# Altium footprint library SENS_OPTIC.PcbLib: 12 footprints
Each footprint in its own frame and in the unit in brackets; x right, y up, seen from the top. Pads: shape width x height; smd on the part's side, far side on the other; paste and mask are expansions set on the pad; w line width, h text height; cw(c..) or ccw(c..) is an arc to the next point about the centre after c.
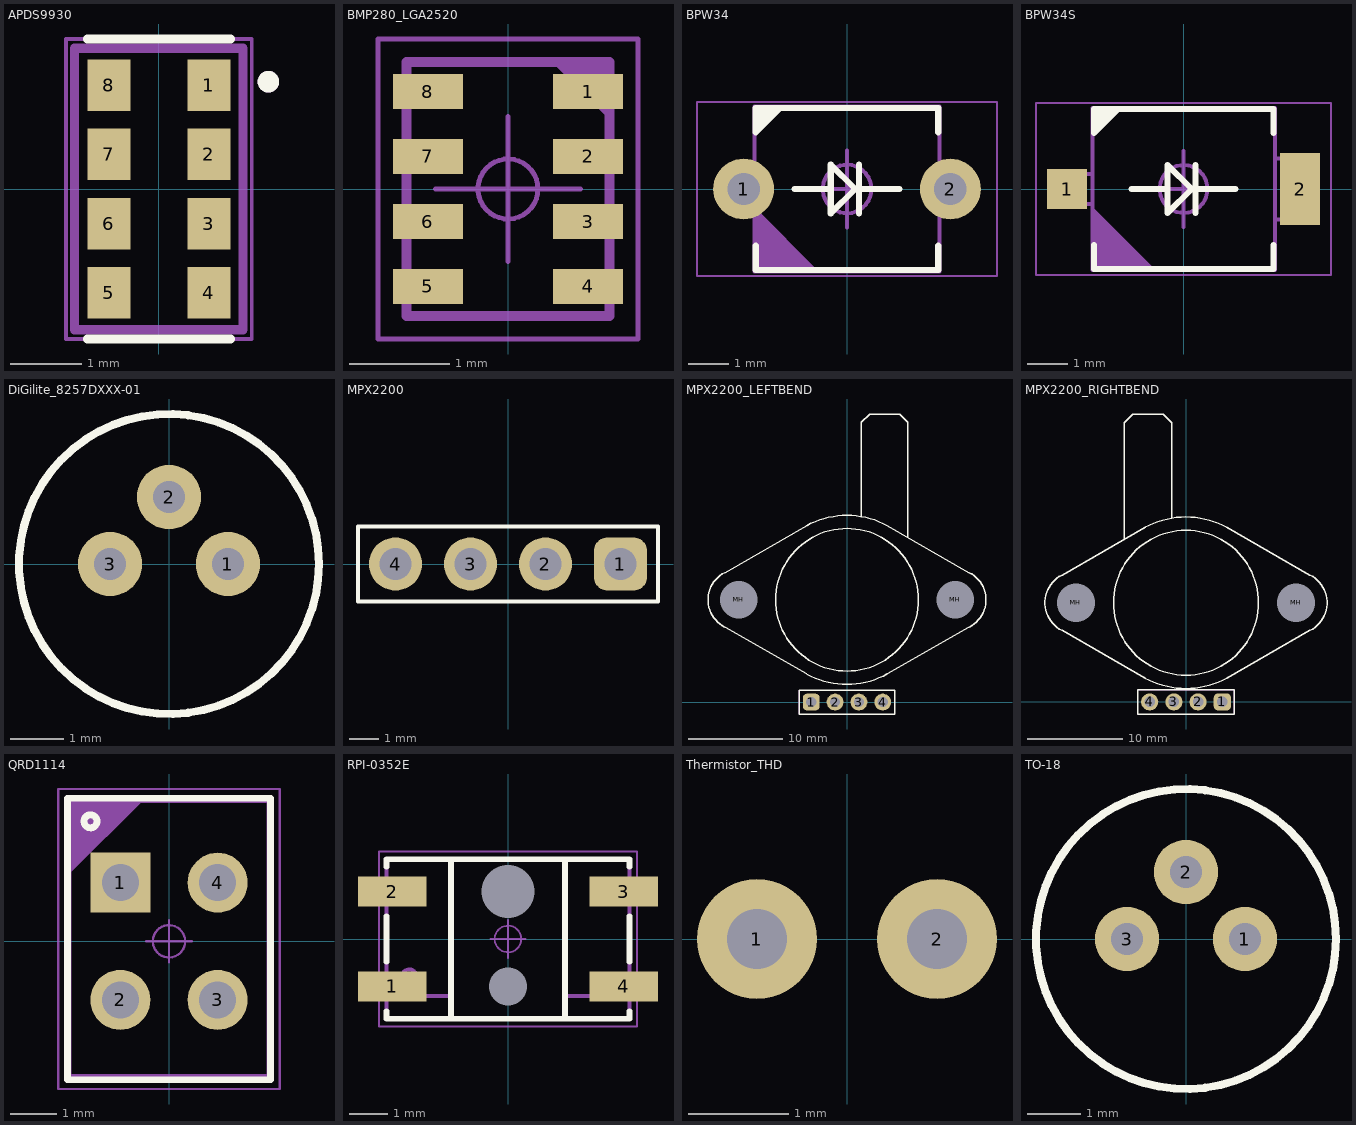
[diagram p0: the footprints below, top view; thin cyan lines are the x and y axes]

## APDS9930 [mm]
pads (8):
  rect 0.6x0.72 smd: 1(0.7,1.455) 2(0.7,0.485) 3(0.7,-0.485) 4(0.7,-1.455) 5(-0.7,-1.455) 6(-0.7,-0.485) 7(-0.7,0.485) 8(-0.7,1.455)
Top Overlay:
  circle w0.2: c1.533,1.502 r0.05
  lines w0.127: -1,-2.1 1,-2.1 ; -1,2.1 1,2.1
Mechanical 13:
  circle w0.2: c1.533,1.502 r0.05
  lines w0.127: -1.18,-1.97 1.18,-1.97 1.18,1.97 -1.18,1.97 -1.18,-1.97
Mechanical 15:
  lines w0.05: -1.3,-2.1 1.3,-2.1 1.3,2.1 -1.3,2.1 -1.3,-2.1
3D body "step_temp.STEP": height 1.58, standoff 0.03, extent -1.18,-1.97 1.18,1.97

## BMP280_LGA2520 [mm]
pads (8):
  rect 0.7x0.35 smd: 1(0.8,0.975) 2(0.8,0.325) 3(0.8,-0.325) 4(0.8,-0.975) 5(-0.8,-0.975) 6(-0.8,-0.325) 7(-0.8,0.325) 8(-0.8,0.975)
Mechanical 14:
  lines w0.1: 0.508,1.27 1.016,0.762 ; 0.635,1.27 1.016,0.889 ; 0.762,1.27 1.016,1.016 ; 0.889,1.27 1.016,1.143 ; -1.016,-1.27 -1.016,1.27 1.016,1.27 1.016,-1.27 -1.016,-1.27
  text ".Designator" at -0.3,-0.3 h0.5
Mechanical 15:
  circle w0.05: c0,0 r0.3
  lines w0.05: -0.724,0 0.724,0 ; 0,-0.724 0,0.724 ; -1.3,-1.5 -1.3,1.5 1.3,1.5 1.3,-1.5 -1.3,-1.5
3D body "Module_LGA_2.0x2.5_Bosch-BMP280.stp": height 0.96, standoff 0.02, extent -1,-1.25 1,1.25

## BPW34 [mm] "SODFL, 2-Leads, Body 3,85x6,45mm, IPC Medium Density"
height 1.2
pads (2):
  round 1.5 hole 0.8: 1(-2.55,0) 2(2.55,0)
Top Overlay:
  lines w0.15: -2.25,-1.4 -2.25,-2 2.25,-2 2.25,-1.4 ; -2.25,1.56 -1.81,2 -1.651,2 -2.25,1.401 -2.25,1.4 -2.25,2 ; -2.25,1.778 -2.159,1.778 -2.032,1.905 -2.155,1.905 -2.25,2 ; -1.3,0 -0.4,0 ; 0.3,-0.6 0.3,0.6 ; 0.3,0 1.3,0 ; 2.25,1.4 2.25,2 -2.25,2 ; -0.4,-0.6 0.2,0 -0.4,0.6 -0.4,-0.6
Mechanical 14:
  lines w0.1: -2.286,-1.905 -2.159,-2.032 ; -2.286,-1.778 -2.032,-2.032 ; -2.286,-1.651 -1.905,-2.032 ; -2.286,-1.524 -1.778,-2.032 ; -2.286,-1.397 -1.651,-2.032 ; -2.286,-1.27 -1.524,-2.032 ; -2.286,-1.143 -1.397,-2.032 ; -2.286,-1.016 -1.27,-2.032 ; -2.286,-0.889 -1.143,-2.032 ; -2.286,-0.762 -1.016,-2.032 ; -2.286,-0.635 -0.889,-2.032 ; -2.286,-0.508 -0.762,-2.032 ; -2.286,-2.032 -2.286,2.032 2.286,2.032 2.286,-2.032 -2.286,-2.032
  text ".Designator" at -1.524,-0.381 h0.75
Mechanical 15:
  circle w0.1: c0,0 r0.6
  lines w0.05: -3.7,-2.15 3.7,-2.15 3.7,2.15 -3.7,2.15 -3.7,-2.15
  lines w0.1: -0.948,0 0.948,0 ; 0,-0.948 0,0.948
3D body "bpw34s.STEP": height 1.22, standoff 0, extent -3.204,-1.95 3.204,1.95

## BPW34S [mm] "SODFL, 2-Leads, Body 3,85x6,45mm, IPC Medium Density"
height 1.2
pads (2):
  rect 1x1 smd: 1(-2.921,0)
  rect 1x1.8 smd: 2(2.921,0)
Top Overlay:
  lines w0.15: -2.25,-1.4 -2.25,-2 2.25,-2 2.25,-1.4 ; -2.25,1.56 -1.81,2 -1.651,2 -2.25,1.401 -2.25,1.4 -2.25,2 ; -2.25,1.778 -2.159,1.778 -2.032,1.905 -2.155,1.905 -2.25,2 ; -1.3,0 -0.4,0 ; 0.3,-0.6 0.3,0.6 ; 0.3,0 1.3,0 ; 2.25,1.4 2.25,2 -2.25,2 ; -0.4,-0.6 -0.4,0.6 0.2,0 -0.4,-0.6
Mechanical 14:
  lines w0.1: -2.286,-1.905 -2.159,-2.032 ; -2.286,-1.778 -2.032,-2.032 ; -2.286,-1.651 -1.905,-2.032 ; -2.286,-1.524 -1.778,-2.032 ; -2.286,-1.397 -1.651,-2.032 ; -2.286,-1.27 -1.524,-2.032 ; -2.286,-1.143 -1.397,-2.032 ; -2.286,-1.016 -1.27,-2.032 ; -2.286,-0.889 -1.143,-2.032 ; -2.286,-0.762 -1.016,-2.032 ; -2.286,-0.635 -0.889,-2.032 ; -2.286,-0.508 -0.762,-2.032 ; -2.286,-0.381 -3.175,-0.381 -3.175,0.381 -2.286,0.381 ; 2.286,-0.762 3.302,-0.762 3.302,0.762 2.286,0.762 ; -2.286,-2.032 -2.286,2.032 2.286,2.032 2.286,-2.032 -2.286,-2.032
  text ".Designator" at -1.524,-0.381 h0.75
Mechanical 15:
  circle w0.1: c0,0 r0.6
  lines w0.05: -3.7,-2.15 -3.7,2.15 3.7,2.15 3.7,-2.15 -3.7,-2.15
  lines w0.1: -0.948,0 0.949,0 ; 0,-0.948 0,0.948
3D body "bpw34s.STEP": height 1.22, standoff 0, extent -3.204,-1.95 3.204,1.95

## DiGilite_8257DXXX-01 [mm]
pads (3):
  round 1.2 hole 0.6: 1(1.1,0) 2(0,1.25) 3(-1.1,0)
Top Overlay:
  circle w0.15: c0,0 r2.8
Mechanical 14:
  circle w0.1: c0,0 r2.8
  text ".Designator" at -1,-0.65 h0.6
3D body: height 15, standoff 3.7, extent -5.5,-5.5 5.5,5.5
3D body "TO18.step": height 4, standoff 0, extent -2.766,-2.775 2.8,2.775
3D body: height 4.2, standoff 0.5, extent -3.65,-3.647 3.65,3.647
3D body: height 15.1, standoff 4, extent -2.5,-2.497 2.5,2.497

## MPX2200 [mm]
pads (4):
  rrect50% 1.8x1.8 hole 1.1: 1(3.81,0)
  round 1.8 hole 1.1: 2(1.27,0) 3(-1.27,0) 4(-3.81,0)
Top Overlay:
  lines w0.15: -5.08,-1.27 -5.08,1.27 5.08,1.27 5.08,-1.27 -5.08,-1.27
Mechanical 14:
  lines w0.1: -5.08,-1.27 5.08,-1.27 5.08,1.27 -5.08,1.27 -5.08,-1.27
  text ".Designator" at -3.5,-0.2 h0.7
3D body "MPX5700AP.step": height 32.8, standoff -5.92, extent -14.925,-2.5 14.925,5.76

## MPX2200_LEFTBEND [mm]
pads (6):
  rrect50% 1.8x1.8 hole 1.1: 1(-3.81,0)
  round 1.8 hole 1.1: 2(-1.27,0) 3(1.27,0) 4(3.81,0)
  round 1.1 hole 4: MH(-11.555,10.9) MH(11.555,10.9)
Top Overlay:
  circle w0.15: c0,10.9 r7.6
  lines w0.05: 4.3,18.8 13.2,13.7
  lines w0.15: -13.004,7.991 cw(c-11.555,10.9) -13.004,13.809 ; -13,8 -4.3,3 ; -13,13.8 -4.3,18.8 ; -4.296,2.991 ccw(c0,10.9) 4.303,2.995 ; -4.296,18.809 cw(c0,10.9) 4.303,18.805 ; 1.5,19.8 1.5,29.8 2.4,30.7 5.6,30.7 6.5,29.8 6.5,17.539 ; 4.3,3 13,8 ; 4.3,18.8 13,13.8 ; 13.004,7.991 ccw(c11.555,10.9) 13.004,13.809 ; -5.08,-1.27 -5.08,1.27 5.08,1.27 5.08,-1.27 -5.08,-1.27
Mechanical 14:
  lines w0.1: -5.08,-1.27 5.08,-1.27 5.08,1.27 -5.08,1.27 -5.08,-1.27
  text ".Designator" at -3.4,-0.5 h0.7
3D body "MPX5100GP-1.step": height 8.73, standoff -4.23, extent -14.732,-0.18 14.733,30.715

## MPX2200_RIGHTBEND [mm]
pads (6):
  rrect50% 1.8x1.8 hole 1.1: 1(3.81,0)
  round 1.8 hole 1.1: 2(1.27,0) 3(-1.27,0) 4(-3.81,0)
  round 1.1 hole 4: MH(-11.555,10.4) MH(11.555,10.4)
Top Overlay:
  circle w0.15: c0,10.4 r7.6
  lines w0.05: -13.2,13.2 -4.3,18.3
  lines w0.15: -13.004,7.491 cw(c-11.555,10.4) -13.004,13.309 ; -13,7.5 -4.3,2.5 ; -13,13.3 -4.3,18.3 ; -6.5,17.039 -6.5,29.3 -5.6,30.2 -2.4,30.2 -1.5,29.3 -1.5,19.3 ; -4.303,2.495 ccw(c0,10.4) 4.296,2.491 ; -4.303,18.305 cw(c0,10.4) 4.296,18.309 ; 4.3,2.5 13,7.5 ; 4.3,18.3 13,13.3 ; 13.004,7.491 ccw(c11.555,10.4) 13.004,13.309 ; -5.08,-1.27 5.08,-1.27 5.08,1.27 -5.08,1.27 -5.08,-1.27
Mechanical 14:
  lines w0.1: -5.08,-1.27 -5.08,1.27 5.08,1.27 5.08,-1.27 -5.08,-1.27
  text ".Designator" at -3.3,-0.5 h0.7
3D body "MPX5100GP.step": height 8.25, standoff -2.07, extent -14.732,-0.18 14.733,30.215

## QRD1114 [mm]
pads (4):
  rect 1.3x1.3 hole 0.8: 1(-1.055,1.27)
  round 1.3 hole 0.8: 2(-1.055,-1.27) 3(1.055,-1.27) 4(1.055,1.27)
Top Overlay:
  circle w0.15: c-1.7,2.6 r0.141
  lines w0.15: -2.2,-3 -2.2,3.1 2.2,3.1 2.2,-3 -2.2,-3
Mechanical 14:
  lines w0.1: -2.159,1.524 -0.635,3.048 ; -2.159,1.651 -0.762,3.048 ; -2.159,1.778 -0.889,3.048 ; -2.159,1.905 -1.016,3.048 ; -2.159,2.032 -1.143,3.048 ; -2.159,2.159 -1.27,3.048 ; -2.159,2.286 -1.397,3.048 ; -2.159,2.413 -1.524,3.048 ; -2.159,2.54 -1.651,3.048 ; -2.159,2.667 -1.778,3.048 ; -2.159,2.794 -1.905,3.048 ; -2.159,2.921 -2.032,3.048 ; -2.159,-2.921 2.159,-2.921 2.159,3.048 -2.159,3.048 -2.159,-2.921
  text ".Designator" at -1.524,-0.381 h0.75
Mechanical 15:
  circle w0.05: c0,0 r0.35
  lines w0.05: -0.5,0 0.5,0 ; 0,-0.46 0,0.46 ; -2.4,-3.2 -2.4,3.3 2.4,3.3 2.4,-3.2 -2.4,-3.2
3D body: height 5.15, standoff 0.5, extent -2.195,-3.05 2.195,3.05
3D body: height 5.2, standoff 2, extent 0.2,-2.2 1.9,2.1
3D body: height 5.2, standoff 2, extent -1.9,-2.2 -0.2,2.1
3D body: height 5.2, standoff 2, extent -1.849,2.35 -1.55,2.65
3D body: height 0.5, standoff -1, extent 0.8,-1.525 1.31,-1.015
3D body: height 0.5, standoff -1, extent 0.8,1.015 1.31,1.525
3D body: height 0.5, standoff -1, extent -1.31,1.015 -0.8,1.525
3D body: height 0.5, standoff -1, extent -1.31,-1.525 -0.8,-1.015

## RPI-0352E [mm] "Photointerrupter gap width 4mm"
pads (6):
  rect 1.8x0.8 smd: 1(-3.05,-1.25) 2(-3.05,1.25) 3(3.05,1.25) 4(3.05,-1.25)
  round 0 hole 1: MH(0,-1.25)
  round 0 hole 1.4: MH(0,1.25)
Top Overlay:
  lines w0.15: -3.2,-1.9 -3.2,-2.1 3.2,-2.1 3.2,-1.9 ; -3.2,-0.6 -3.2,0.6 ; -3.2,1.9 -3.2,2.1 3.2,2.1 3.2,1.9 ; -1.5,-2.1 -1.5,2.1 ; 1.5,-2.1 1.5,2.1 ; 3.2,-0.6 3.2,0.6
Mechanical 14:
  circle w0.1: c-2.6,-1 r0.2
  lines w0.1: -3.2,-1.5 -1.5,-1.5 ; -1.5,-2.1 -1.5,2.1 ; 1.5,-2.1 1.5,2.1 ; 1.5,-1.5 3.2,-1.5 ; -3.2,-2.1 3.2,-2.1 3.2,2.1 -3.2,2.1 -3.2,-2.1
  text ".Designator" at -1.1,-0.4 h0.75
Mechanical 15:
  circle w0.05: c0,0 r0.35
  lines w0.05: -0.46,0 0.46,0 ; 0,-0.5 0,0.5 ; -3.4,-2.3 -3.4,2.3 3.4,2.3 3.4,-2.3 -3.4,-2.3
3D body: height 0.5, standoff -0.5, extent -0.694,0.551 0.7,1.949
3D body: height 5.4, standoff 0.2, extent 1.5,-2.1 3.2,2.1
3D body: height 1.7, standoff 0.2, extent -3.2,-2.1 3.2,2.1
3D body: height 5.4, standoff 0.2, extent -3.2,-2.1 -1.5,2.1
3D body: height 0.5, standoff -0.5, extent -0.496,-1.749 0.5,-0.751
3D body: height 0.2, standoff 0, extent -3.7,-1.5 -2.4,-1
3D body: height 0.2, standoff 0, extent -3.7,1 -2.4,1.5
3D body: height 0.2, standoff 0, extent 2.4,1 3.7,1.5
3D body: height 0.2, standoff 0, extent 2.4,-1.5 3.7,-1

## Thermistor_THD [mm]
pads (2):
  round 1.2 hole 0.6: 1(-0.9,0) 2(0.9,0)
Mechanical 14:
  text ".Designator" at -1,-0.65 h0.5
3D body "KC003T-ND.step": height 14.05, standoff -1.15, extent -1.047,-0.3 1.047,12.617

## TO-18 [mm]
pads (3):
  round 1.2 hole 0.6: 1(1.1,0) 2(0,1.25) 3(-1.1,0)
Top Overlay:
  circle w0.15: c0,0 r2.8
Mechanical 14:
  circle w0.1: c0,0 r2.8
  lines w0.254: 0,1.2 0,1.25 ; 0,1.2 0,1.25 ; 0,1.2 0,1.25
  text ".Designator" at -1,-0.65 h0.5
3D body "TO18.step": height 3.7, standoff -0.3, extent -2.766,-2.775 2.8,2.775